# Altium schematic symbol library 430451610.SchLib: 1 symbol
Pins are listed as number, name and electrical type; pins without a type are passive.

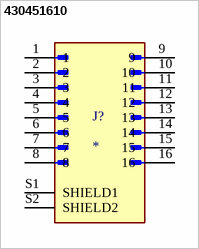
[diagram p0: symbol 430451610]

## 430451610
designator J?
Conn Wire to Board HDR 16 POS 3mm Solder RA SMD Micro-Fit 3.0â„¢ Embossed T/R; MF: Molex; MP: 430451610; SnapEDA_Link: https://www.snapeda.com/parts/430451610/Molex/view-part/?ref=snap; Package: None; Value: *; Check_prices: https://www.snapeda.com/parts/430451610/Molex/view-part/?ref=eda
footprint MOLEX_430451610
pins: 1, 2, 3, 4, 5, 6, 7, 8, 9, 10, 11, 12, 13, 14, 15, 16, S1 SHIELD1, S2 SHIELD2